# Altium integrated library TI Data Converters Digital to Analog Converter.IntLib: 1533 symbols (part 20 of 99)
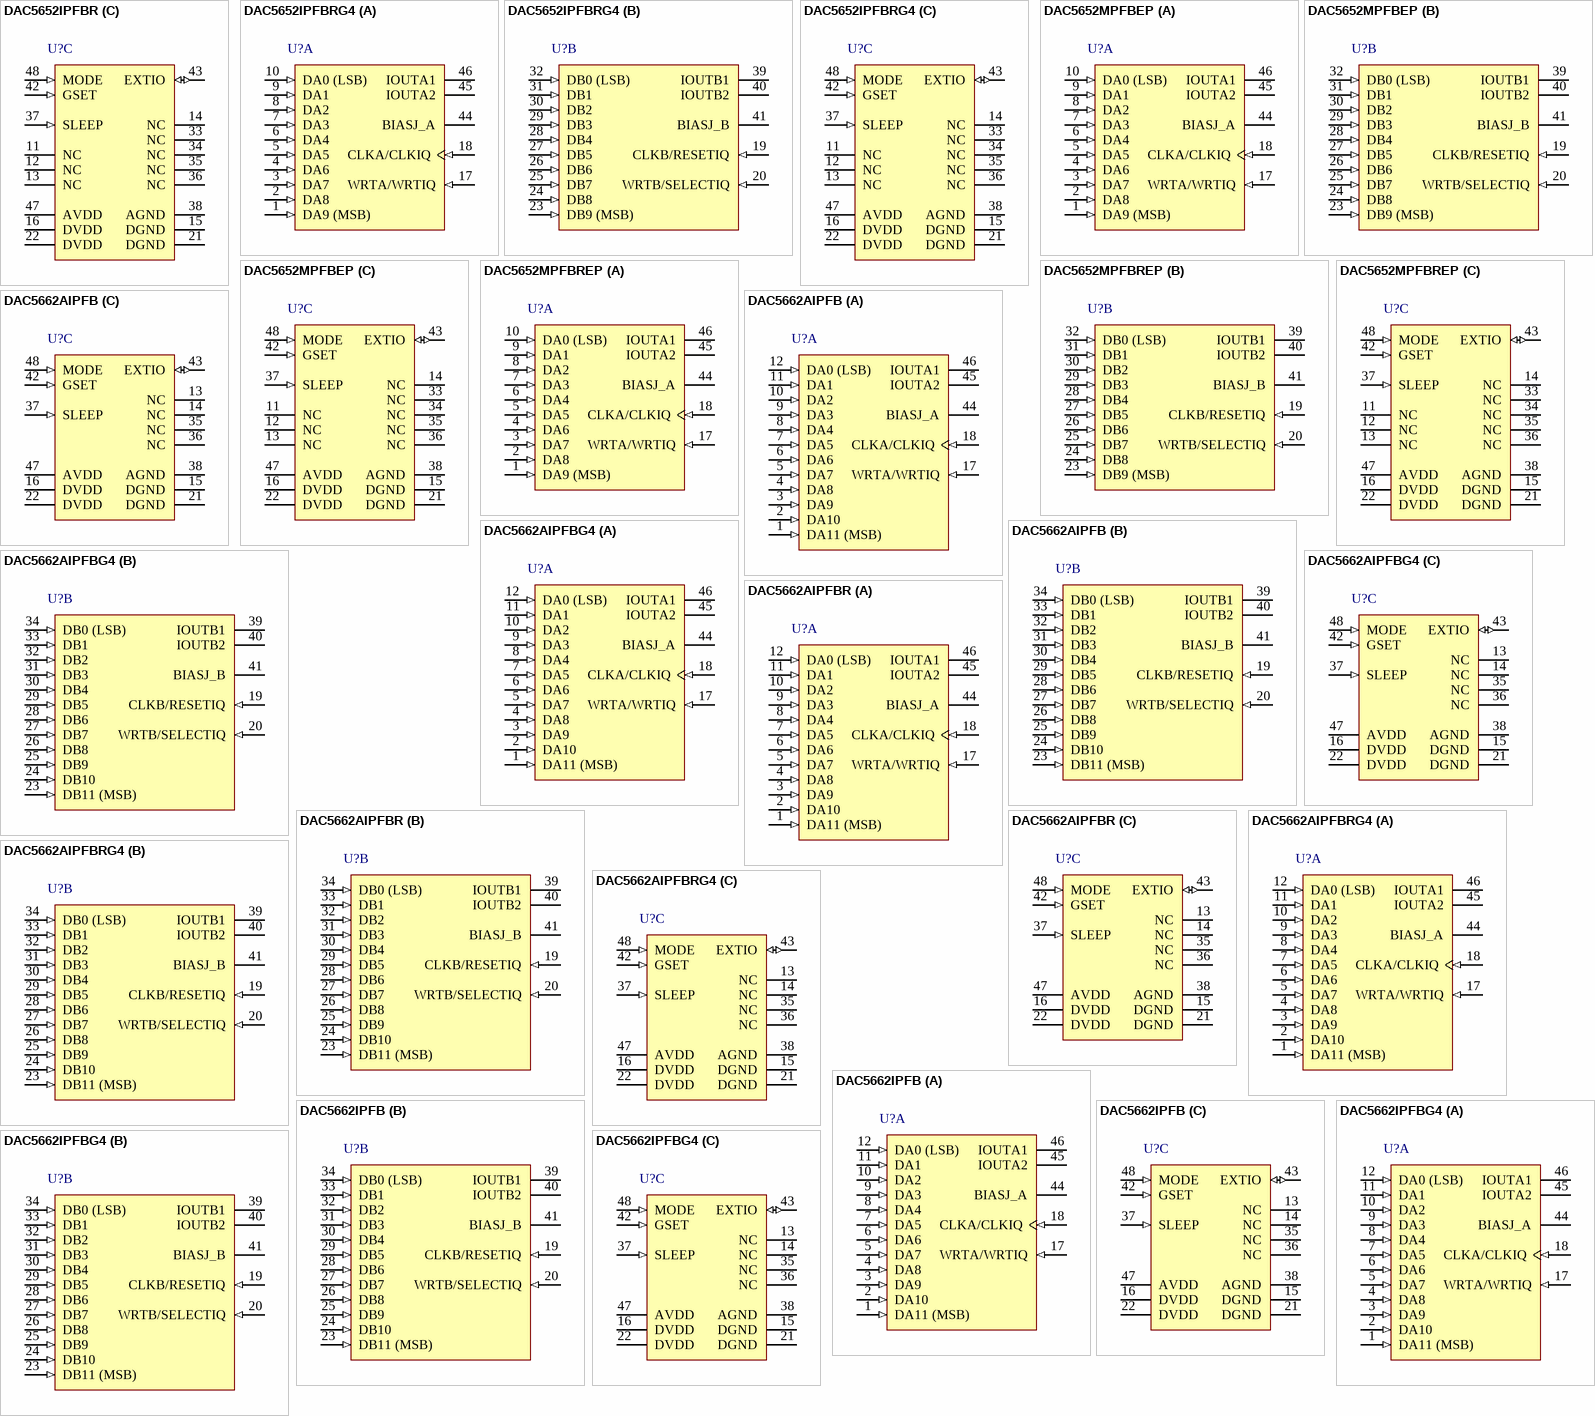
[diagram p92: symbols DAC5652IPFBR to DAC5662IPFBG4]

## DAC5652MPFBEP
designator U?
Enhanced Product 10-Bit 275 MSPS Dual Digital to Analog Converter, -55 to 125 degC, 48-pin QFP (PFB48), Green (RoHS & no Sb/Br); Manufacturer: Texas Instruments; PartNumber: DAC5652MPFBEP; DAC Channels: 2; DNL(Max)(+/-LSB): 0.5; INL(Max)(+/-LSB): 1; Interface: Parallel CMOS; Power Consumption(Typ)(mW): 290; Resolution(Bits): 10; Settling Time(us): 0.02; SFDR(dB): 80; SNR(dB): 63; SubFamily: High Speed DAC (>10MSPS); DatasheetVersion: SGLS341C; PackageVersion: 4073176/B, 10/1996; PackageReference: PFB48; PackageDescription: 48-Pin Plastic Flat Pack, Body 7 x 7 mm, Pitch 0.5 mm; Supplier 1: Mouser; Supplier Part Number 1: 595-DAC5652MPFBEP; Eco-Plan: Green (RoHS & no Sb/Br); Mounting Technology: Surface Mount; Code_JEDEC: MS-026; ComponentLink1Description: Manufacturer URL; ComponentLink1URL: http://www.ti.com/; ComponentLink2Description: Datasheet; ComponentLink2URL: http://www.ti.com/general/docs/lit/getliterature.tsp?genericPartNumber=DAC5652-EP&fileType=pdf; ComponentLink3Description: Package Specification; ComponentLink3URL: http://www.ti.com/lit/ml/mtqf019a/mtqf019a.pdf
footprint TI-PFB48_N (QFP, 48-Leads, Body 7x7mm, Pitch 0.5mm, IPC Medium Density)
footprint TI-PFB48_L (QFP, 48-Leads, Body 7x7mm, Pitch 0.5mm, IPC High Density)
footprint TI-PFB48_M (QFP, 48-Leads, Body 7x7mm, Pitch 0.5mm, IPC Low Density)
part A pins: 1 DA9 (MSB) (in) "Data port A. DA9 is MSB and DA0 is LSB. Internal pulldown.", 2 DA8 (in) "Data port A. DA9 is MSB and DA0 is LSB. Internal pulldown.", 3 DA7 (in) "Data port A. DA9 is MSB and DA0 is LSB. Internal pulldown.", 4 DA6 (in) "Data port A. DA9 is MSB and DA0 is LSB. Internal pulldown.", 5 DA5 (in) "Data port A. DA9 is MSB and DA0 is LSB. Internal pulldown.", 6 DA4 (in) "Data port A. DA9 is MSB and DA0 is LSB. Internal pulldown.", 7 DA3 (in) "Data port A. DA9 is MSB and DA0 is LSB. Internal pulldown.", 8 DA2 (in) "Data port A. DA9 is MSB and DA0 is LSB. Internal pulldown.", 9 DA1 (in) "Data port A. DA9 is MSB and DA0 is LSB. Internal pulldown.", 10 DA0 (LSB) (in) "Data port A. DA9 is MSB and DA0 is LSB. Internal pulldown.", 17 WRTA/WRTIQ (in) "Input write signal for PORT A (WRTIQ in interleaving mode)", 18 CLKA/CLKIQ (in) "Clock input for DACA, CLKIQ in interleaved mode", 44 BIASJ_A "Full-scale output current bias for DACA", 45 IOUTA2 (hiz) "DACA complementary current output. Full-scale with all bits of DA low.", 46 IOUTA1 (hiz) "DACA current output. Full-scale with all bits of DA high."
part B pins: 19 CLKB/RESETIQ (in) "Clock input for DACB, RESETIQ in interleaved mode", 20 WRTB/SELECTIQ (in) "Input write signal for PORT B (SELECTIQ in interleaving mode)", 23 DB9 (MSB) (in) "Data port B. DB9 is MSB and DB0 is LSB. Internal pulldown.", 24 DB8 (in) "Data port B. DB9 is MSB and DB0 is LSB. Internal pulldown.", 25 DB7 (in) "Data port B. DB9 is MSB and DB0 is LSB. Internal pulldown.", 26 DB6 (in) "Data port B. DB9 is MSB and DB0 is LSB. Internal pulldown.", 27 DB5 (in) "Data port B. DB9 is MSB and DB0 is LSB. Internal pulldown.", 28 DB4 (in) "Data port B. DB9 is MSB and DB0 is LSB. Internal pulldown.", 29 DB3 (in) "Data port B. DB9 is MSB and DB0 is LSB. Internal pulldown.", 30 DB2 (in) "Data port B. DB9 is MSB and DB0 is LSB. Internal pulldown.", 31 DB1 (in) "Data port B. DB9 is MSB and DB0 is LSB. Internal pulldown.", 32 DB0 (LSB) (in) "Data port B. DB9 is MSB and DB0 is LSB. Internal pulldown.", 39 IOUTB1 (hiz) "DACB current output. Full-scale with all bits of DB high.", 40 IOUTB2 (hiz) "DACB complementary current output. Full-scale with all bits of DB low.", 41 BIASJ_B "Full-scale output current bias for DACB"
part C pins: 11 NC "Factory use only. Pins must be connected to DGND or left unconnected.", 12 NC "Factory use only. Pins must be connected to DGND or left unconnected.", 13 NC "Factory use only. Pins must be connected to DGND or left unconnected.", 14 NC "Factory use only. Pins must be connected to DGND or left unconnected.", 15 DGND (power) "Digital ground", 16 DVDD (power) "Digital supply voltage", 21 DGND (power) "Digital ground", 22 DVDD (power) "Digital supply voltage", 33 NC "Factory use only. Pins must be connected to DGND or left unconnected.", 34 NC "Factory use only. Pins must be connected to DGND or left unconnected.", 35 NC "Factory use only. Pins must be connected to DGND or left unconnected.", 36 NC "Factory use only. Pins must be connected to DGND or left unconnected.", 37 SLEEP (in) "Sleep function control input: H - DAC in power-down mode, L - DAC in operating mode. Internal pulldown.", 38 AGND (power) "Analog ground", 42 GSET (in) "Gain-setting mode: H - 1 resistor, L - 2 resistors. Internal pullup.", 43 EXTIO (io) "Internal reference output (bypass with 0.1 uF to AGND) or external reference input", 47 AVDD (power) "Analog supply voltage", 48 MODE (in) "Mode Select: H - Dual Bus, L - Interleaved. Internal pullup."

## DAC5652MPFBREP
designator U?
Enhanced Product 10-Bit 275 MSPS Dual Digital to Analog Converter, -55 to 125 degC, 48-pin QFP (PFB48), Green (RoHS & no Sb/Br); Manufacturer: Texas Instruments; PartNumber: DAC5652MPFBREP; DAC Channels: 2; DNL(Max)(+/-LSB): 0.5; INL(Max)(+/-LSB): 1; Interface: Parallel CMOS; Power Consumption(Typ)(mW): 290; Resolution(Bits): 10; Settling Time(us): 0.02; SFDR(dB): 80; SNR(dB): 63; SubFamily: High Speed DAC (>10MSPS); DatasheetVersion: SGLS341C; PackageVersion: 4073176/B, 10/1996; PackageReference: PFB48; PackageDescription: 48-Pin Plastic Flat Pack, Body 7 x 7 mm, Pitch 0.5 mm; Supplier 1: Digi-Key; Supplier Part Number 1: 296-21303-2-ND; Supplier 2: Digi-Key; Supplier Part Number 2: 296-21303-1-ND; Supplier 3: Digi-Key; Supplier Part Number 3: 296-21303-6-ND; Supplier 4: Newark; Supplier Part Number 4: 63R9875; Supplier 5: Mouser; Supplier Part Number 5: 595-DAC5652MPFBREP; Eco-Plan: Green (RoHS & no Sb/Br); Mounting Technology: Surface Mount; Code_JEDEC: MS-026; ComponentLink1Description: Manufacturer URL; ComponentLink1URL: http://www.ti.com/; ComponentLink2Description: Datasheet; ComponentLink2URL: http://www.ti.com/general/docs/lit/getliterature.tsp?genericPartNumber=DAC5652-EP&fileType=pdf; ComponentLink3Description: Package Specification; ComponentLink3URL: http://www.ti.com/lit/ml/mtqf019a/mtqf019a.pdf
footprint TI-PFB48_N (QFP, 48-Leads, Body 7x7mm, Pitch 0.5mm, IPC Medium Density)
footprint TI-PFB48_L (QFP, 48-Leads, Body 7x7mm, Pitch 0.5mm, IPC High Density)
footprint TI-PFB48_M (QFP, 48-Leads, Body 7x7mm, Pitch 0.5mm, IPC Low Density)
part A pins: 1 DA9 (MSB) (in) "Data port A. DA9 is MSB and DA0 is LSB. Internal pulldown.", 2 DA8 (in) "Data port A. DA9 is MSB and DA0 is LSB. Internal pulldown.", 3 DA7 (in) "Data port A. DA9 is MSB and DA0 is LSB. Internal pulldown.", 4 DA6 (in) "Data port A. DA9 is MSB and DA0 is LSB. Internal pulldown.", 5 DA5 (in) "Data port A. DA9 is MSB and DA0 is LSB. Internal pulldown.", 6 DA4 (in) "Data port A. DA9 is MSB and DA0 is LSB. Internal pulldown.", 7 DA3 (in) "Data port A. DA9 is MSB and DA0 is LSB. Internal pulldown.", 8 DA2 (in) "Data port A. DA9 is MSB and DA0 is LSB. Internal pulldown.", 9 DA1 (in) "Data port A. DA9 is MSB and DA0 is LSB. Internal pulldown.", 10 DA0 (LSB) (in) "Data port A. DA9 is MSB and DA0 is LSB. Internal pulldown.", 17 WRTA/WRTIQ (in) "Input write signal for PORT A (WRTIQ in interleaving mode)", 18 CLKA/CLKIQ (in) "Clock input for DACA, CLKIQ in interleaved mode", 44 BIASJ_A "Full-scale output current bias for DACA", 45 IOUTA2 (hiz) "DACA complementary current output. Full-scale with all bits of DA low.", 46 IOUTA1 (hiz) "DACA current output. Full-scale with all bits of DA high."
part B pins: 19 CLKB/RESETIQ (in) "Clock input for DACB, RESETIQ in interleaved mode", 20 WRTB/SELECTIQ (in) "Input write signal for PORT B (SELECTIQ in interleaving mode)", 23 DB9 (MSB) (in) "Data port B. DB9 is MSB and DB0 is LSB. Internal pulldown.", 24 DB8 (in) "Data port B. DB9 is MSB and DB0 is LSB. Internal pulldown.", 25 DB7 (in) "Data port B. DB9 is MSB and DB0 is LSB. Internal pulldown.", 26 DB6 (in) "Data port B. DB9 is MSB and DB0 is LSB. Internal pulldown.", 27 DB5 (in) "Data port B. DB9 is MSB and DB0 is LSB. Internal pulldown.", 28 DB4 (in) "Data port B. DB9 is MSB and DB0 is LSB. Internal pulldown.", 29 DB3 (in) "Data port B. DB9 is MSB and DB0 is LSB. Internal pulldown.", 30 DB2 (in) "Data port B. DB9 is MSB and DB0 is LSB. Internal pulldown.", 31 DB1 (in) "Data port B. DB9 is MSB and DB0 is LSB. Internal pulldown.", 32 DB0 (LSB) (in) "Data port B. DB9 is MSB and DB0 is LSB. Internal pulldown.", 39 IOUTB1 (hiz) "DACB current output. Full-scale with all bits of DB high.", 40 IOUTB2 (hiz) "DACB complementary current output. Full-scale with all bits of DB low.", 41 BIASJ_B "Full-scale output current bias for DACB"
part C pins: 11 NC "Factory use only. Pins must be connected to DGND or left unconnected.", 12 NC "Factory use only. Pins must be connected to DGND or left unconnected.", 13 NC "Factory use only. Pins must be connected to DGND or left unconnected.", 14 NC "Factory use only. Pins must be connected to DGND or left unconnected.", 15 DGND (power) "Digital ground", 16 DVDD (power) "Digital supply voltage", 21 DGND (power) "Digital ground", 22 DVDD (power) "Digital supply voltage", 33 NC "Factory use only. Pins must be connected to DGND or left unconnected.", 34 NC "Factory use only. Pins must be connected to DGND or left unconnected.", 35 NC "Factory use only. Pins must be connected to DGND or left unconnected.", 36 NC "Factory use only. Pins must be connected to DGND or left unconnected.", 37 SLEEP (in) "Sleep function control input: H - DAC in power-down mode, L - DAC in operating mode. Internal pulldown.", 38 AGND (power) "Analog ground", 42 GSET (in) "Gain-setting mode: H - 1 resistor, L - 2 resistors. Internal pullup.", 43 EXTIO (io) "Internal reference output (bypass with 0.1 uF to AGND) or external reference input", 47 AVDD (power) "Analog supply voltage", 48 MODE (in) "Mode Select: H - Dual Bus, L - Interleaved. Internal pullup."

## DAC5662AIPFB
designator U?
12-Bit 275 MSPS Dual DAC, -40 to 85 degC, 48-pin QFP (PFB48), Green (RoHS & no Sb/Br); Manufacturer: Texas Instruments; PartNumber: DAC5662AIPFB; DAC Channels: 2; Interface: Parallel CMOS; Power Consumption(Typ)(mW): 330; Resolution(Bits): 12; Settling Time(us): 0.02; SFDR(dB): 85; SNR(dB): 73; SubFamily: High Speed DAC (>10MSPS); DatasheetVersion: SLAS536B; PackageVersion: 4073176/B, 10/1996; PackageReference: PFB48; PackageDescription: 48-Pin Plastic Flat Pack, Body 7 x 7 mm, Pitch 0.5 mm; Supplier 1: Digi-Key; Supplier Part Number 1: 296-22615-ND; Supplier 2: Newark; Supplier Part Number 2: 58M0321; Supplier 3: Mouser; Supplier Part Number 3: 595-DAC5662AIPFB; DNL(Max)(+/-LSB): 2; Eco-Plan: Green (RoHS & no Sb/Br); INL(Max)(+/-LSB): 2; Mounting Technology: Surface Mount; Code_JEDEC: MS-026; ComponentLink1Description: Manufacturer URL; ComponentLink1URL: http://www.ti.com/; ComponentLink2Description: Datasheet; ComponentLink2URL: http://www.ti.com/general/docs/lit/getliterature.tsp?genericPartNumber=DAC5662A&fileType=pdf; ComponentLink3Description: Package Specification; ComponentLink3URL: http://www.ti.com/lit/ml/mtqf019a/mtqf019a.pdf
footprint TI-PFB48_N (QFP, 48-Leads, Body 7x7mm, Pitch 0.5mm, IPC Medium Density)
footprint TI-PFB48_L (QFP, 48-Leads, Body 7x7mm, Pitch 0.5mm, IPC High Density)
footprint TI-PFB48_M (QFP, 48-Leads, Body 7x7mm, Pitch 0.5mm, IPC Low Density)
part A pins: 1 DA11 (MSB) (in) "Data port A. DA11 is MSB and DA0 is LSB. Internal pulldown.", 2 DA10 (in) "Data port A. DA11 is MSB and DA0 is LSB. Internal pulldown.", 3 DA9 (in) "Data port A. DA11 is MSB and DA0 is LSB. Internal pulldown.", 4 DA8 (in) "Data port A. DA11 is MSB and DA0 is LSB. Internal pulldown.", 5 DA7 (in) "Data port A. DA11 is MSB and DA0 is LSB. Internal pulldown.", 6 DA6 (in) "Data port A. DA11 is MSB and DA0 is LSB. Internal pulldown.", 7 DA5 (in) "Data port A. DA11 is MSB and DA0 is LSB. Internal pulldown.", 8 DA4 (in) "Data port A. DA11 is MSB and DA0 is LSB. Internal pulldown.", 9 DA3 (in) "Data port A. DA11 is MSB and DA0 is LSB. Internal pulldown.", 10 DA2 (in) "Data port A. DA11 is MSB and DA0 is LSB. Internal pulldown.", 11 DA1 (in) "Data port A. DA11 is MSB and DA0 is LSB. Internal pulldown.", 12 DA0 (LSB) (in) "Data port A. DA11 is MSB and DA0 is LSB. Internal pulldown.", 17 WRTA/WRTIQ (in) "Input write signal for PORT A (WRTIQ in interleaving mode)", 18 CLKA/CLKIQ (in) "Clock input for DACA, CLKIQ in interleaved mode", 44 BIASJ_A "Full-scale output current bias for DACA", 45 IOUTA2 (hiz) "DACA complementary current output. Full-scale with all bits of DA low.", 46 IOUTA1 (hiz) "DACA current output. Full-scale with all bits of DA high."
part B pins: 19 CLKB/RESETIQ (in) "Clock input for DACB, RESETIQ in interleaved mode", 20 WRTB/SELECTIQ (in) "Input write signal for PORT B (SELECTIQ in interleaving mode)", 23 DB11 (MSB) (in) "Data port B. DB11 is MSB and DB0 is LSB. Internal pulldown.", 24 DB10 (in) "Data port B. DB11 is MSB and DB0 is LSB. Internal pulldown.", 25 DB9 (in) "Data port B. DB11 is MSB and DB0 is LSB. Internal pulldown.", 26 DB8 (in) "Data port B. DB11 is MSB and DB0 is LSB. Internal pulldown.", 27 DB7 (in) "Data port B. DB11 is MSB and DB0 is LSB. Internal pulldown.", 28 DB6 (in) "Data port B. DB11 is MSB and DB0 is LSB. Internal pulldown.", 29 DB5 (in) "Data port B. DB11 is MSB and DB0 is LSB. Internal pulldown.", 30 DB4 (in) "Data port B. DB11 is MSB and DB0 is LSB. Internal pulldown.", 31 DB3 (in) "Data port B. DB11 is MSB and DB0 is LSB. Internal pulldown.", 32 DB2 (in) "Data port B. DB11 is MSB and DB0 is LSB. Internal pulldown.", 33 DB1 (in) "Data port B. DB11 is MSB and DB0 is LSB. Internal pulldown.", 34 DB0 (LSB) (in) "Data port B. DB11 is MSB and DB0 is LSB. Internal pulldown.", 39 IOUTB1 (hiz) "DACB current output. Full-scale with all bits of DB high.", 40 IOUTB2 (hiz) "DACB complementary current output. Full-scale with all bits of DB low.", 41 BIASJ_B "Full-scale output current bias for DACB"
part C pins: 13 NC "Factory use only. Pins must be connected to DGND or left unconnected.", 14 NC "Factory use only. Pins must be connected to DGND or left unconnected.", 15 DGND (power) "Digital ground", 16 DVDD (power) "Digital supply voltage", 21 DGND (power) "Digital ground", 22 DVDD (power) "Digital supply voltage", 35 NC "Factory use only. Pins must be connected to DGND or left unconnected.", 36 NC "Factory use only. Pins must be connected to DGND or left unconnected.", 37 SLEEP (in) "Sleep function control input: H - DAC in power-down mode, L - DAC in operating mode. Internal pulldown.", 38 AGND (power) "Analog ground", 42 GSET (in) "Gain-setting mode: H - 1 resistor, L - 2 resistors. Internal pullup.", 43 EXTIO (io) "Internal reference output (bypass with 0.1 uF to AGND) or external reference input", 47 AVDD (power) "Analog supply voltage", 48 MODE (in) "Mode Select: H - Dual Bus, L - Interleaved. Internal pullup."

## DAC5662AIPFBG4
designator U?
12-Bit 275 MSPS Dual DAC, -40 to 85 degC, 48-pin QFP (PFB48), Green (RoHS & no Sb/Br); Manufacturer: Texas Instruments; PartNumber: DAC5662AIPFBG4; DAC Channels: 2; Interface: Parallel CMOS; Power Consumption(Typ)(mW): 330; Resolution(Bits): 12; Settling Time(us): 0.02; SFDR(dB): 85; SNR(dB): 73; SubFamily: High Speed DAC (>10MSPS); DatasheetVersion: SLAS536B; PackageVersion: 4073176/B, 10/1996; PackageReference: PFB48; PackageDescription: 48-Pin Plastic Flat Pack, Body 7 x 7 mm, Pitch 0.5 mm; Supplier 1: Digi-Key; Supplier Part Number 1: DAC5662AIPFBG4-ND; Supplier 2: Mouser; Supplier Part Number 2: 595-DAC5662AIPFBG4; DNL(Max)(+/-LSB): 2; Eco-Plan: Green (RoHS & no Sb/Br); INL(Max)(+/-LSB): 2; Mounting Technology: Surface Mount; Code_JEDEC: MS-026; ComponentLink1Description: Manufacturer URL; ComponentLink1URL: http://www.ti.com/; ComponentLink2Description: Datasheet; ComponentLink2URL: http://www.ti.com/general/docs/lit/getliterature.tsp?genericPartNumber=DAC5662A&fileType=pdf; ComponentLink3Description: Package Specification; ComponentLink3URL: http://www.ti.com/lit/ml/mtqf019a/mtqf019a.pdf
footprint TI-PFB48_N (QFP, 48-Leads, Body 7x7mm, Pitch 0.5mm, IPC Medium Density)
footprint TI-PFB48_L (QFP, 48-Leads, Body 7x7mm, Pitch 0.5mm, IPC High Density)
footprint TI-PFB48_M (QFP, 48-Leads, Body 7x7mm, Pitch 0.5mm, IPC Low Density)
part A pins: 1 DA11 (MSB) (in) "Data port A. DA11 is MSB and DA0 is LSB. Internal pulldown.", 2 DA10 (in) "Data port A. DA11 is MSB and DA0 is LSB. Internal pulldown.", 3 DA9 (in) "Data port A. DA11 is MSB and DA0 is LSB. Internal pulldown.", 4 DA8 (in) "Data port A. DA11 is MSB and DA0 is LSB. Internal pulldown.", 5 DA7 (in) "Data port A. DA11 is MSB and DA0 is LSB. Internal pulldown.", 6 DA6 (in) "Data port A. DA11 is MSB and DA0 is LSB. Internal pulldown.", 7 DA5 (in) "Data port A. DA11 is MSB and DA0 is LSB. Internal pulldown.", 8 DA4 (in) "Data port A. DA11 is MSB and DA0 is LSB. Internal pulldown.", 9 DA3 (in) "Data port A. DA11 is MSB and DA0 is LSB. Internal pulldown.", 10 DA2 (in) "Data port A. DA11 is MSB and DA0 is LSB. Internal pulldown.", 11 DA1 (in) "Data port A. DA11 is MSB and DA0 is LSB. Internal pulldown.", 12 DA0 (LSB) (in) "Data port A. DA11 is MSB and DA0 is LSB. Internal pulldown.", 17 WRTA/WRTIQ (in) "Input write signal for PORT A (WRTIQ in interleaving mode)", 18 CLKA/CLKIQ (in) "Clock input for DACA, CLKIQ in interleaved mode", 44 BIASJ_A "Full-scale output current bias for DACA", 45 IOUTA2 (hiz) "DACA complementary current output. Full-scale with all bits of DA low.", 46 IOUTA1 (hiz) "DACA current output. Full-scale with all bits of DA high."
part B pins: 19 CLKB/RESETIQ (in) "Clock input for DACB, RESETIQ in interleaved mode", 20 WRTB/SELECTIQ (in) "Input write signal for PORT B (SELECTIQ in interleaving mode)", 23 DB11 (MSB) (in) "Data port B. DB11 is MSB and DB0 is LSB. Internal pulldown.", 24 DB10 (in) "Data port B. DB11 is MSB and DB0 is LSB. Internal pulldown.", 25 DB9 (in) "Data port B. DB11 is MSB and DB0 is LSB. Internal pulldown.", 26 DB8 (in) "Data port B. DB11 is MSB and DB0 is LSB. Internal pulldown.", 27 DB7 (in) "Data port B. DB11 is MSB and DB0 is LSB. Internal pulldown.", 28 DB6 (in) "Data port B. DB11 is MSB and DB0 is LSB. Internal pulldown.", 29 DB5 (in) "Data port B. DB11 is MSB and DB0 is LSB. Internal pulldown.", 30 DB4 (in) "Data port B. DB11 is MSB and DB0 is LSB. Internal pulldown.", 31 DB3 (in) "Data port B. DB11 is MSB and DB0 is LSB. Internal pulldown.", 32 DB2 (in) "Data port B. DB11 is MSB and DB0 is LSB. Internal pulldown.", 33 DB1 (in) "Data port B. DB11 is MSB and DB0 is LSB. Internal pulldown.", 34 DB0 (LSB) (in) "Data port B. DB11 is MSB and DB0 is LSB. Internal pulldown.", 39 IOUTB1 (hiz) "DACB current output. Full-scale with all bits of DB high.", 40 IOUTB2 (hiz) "DACB complementary current output. Full-scale with all bits of DB low.", 41 BIASJ_B "Full-scale output current bias for DACB"
part C pins: 13 NC "Factory use only. Pins must be connected to DGND or left unconnected.", 14 NC "Factory use only. Pins must be connected to DGND or left unconnected.", 15 DGND (power) "Digital ground", 16 DVDD (power) "Digital supply voltage", 21 DGND (power) "Digital ground", 22 DVDD (power) "Digital supply voltage", 35 NC "Factory use only. Pins must be connected to DGND or left unconnected.", 36 NC "Factory use only. Pins must be connected to DGND or left unconnected.", 37 SLEEP (in) "Sleep function control input: H - DAC in power-down mode, L - DAC in operating mode. Internal pulldown.", 38 AGND (power) "Analog ground", 42 GSET (in) "Gain-setting mode: H - 1 resistor, L - 2 resistors. Internal pullup.", 43 EXTIO (io) "Internal reference output (bypass with 0.1 uF to AGND) or external reference input", 47 AVDD (power) "Analog supply voltage", 48 MODE (in) "Mode Select: H - Dual Bus, L - Interleaved. Internal pullup."

## DAC5662AIPFBR
designator U?
12-Bit 275 MSPS Dual DAC, -40 to 85 degC, 48-pin QFP (PFB48), Green (RoHS & no Sb/Br); Manufacturer: Texas Instruments; PartNumber: DAC5662AIPFBR; DAC Channels: 2; Interface: Parallel CMOS; Power Consumption(Typ)(mW): 330; Resolution(Bits): 12; Settling Time(us): 0.02; SFDR(dB): 85; SNR(dB): 73; SubFamily: High Speed DAC (>10MSPS); DatasheetVersion: SLAS536B; PackageVersion: 4073176/B, 10/1996; PackageReference: PFB48; PackageDescription: 48-Pin Plastic Flat Pack, Body 7 x 7 mm, Pitch 0.5 mm; Supplier 1: Digi-Key; Supplier Part Number 1: DAC5662AIPFBR-ND; Supplier 2: Newark; Supplier Part Number 2: 58M0322; Supplier 3: Mouser; Supplier Part Number 3: 595-DAC5662AIPFBR; DNL(Max)(+/-LSB): 2; Eco-Plan: Green (RoHS & no Sb/Br); INL(Max)(+/-LSB): 2; Mounting Technology: Surface Mount; Code_JEDEC: MS-026; ComponentLink1Description: Manufacturer URL; ComponentLink1URL: http://www.ti.com/; ComponentLink2Description: Datasheet; ComponentLink2URL: http://www.ti.com/general/docs/lit/getliterature.tsp?genericPartNumber=DAC5662A&fileType=pdf; ComponentLink3Description: Package Specification; ComponentLink3URL: http://www.ti.com/lit/ml/mtqf019a/mtqf019a.pdf
footprint TI-PFB48_N (QFP, 48-Leads, Body 7x7mm, Pitch 0.5mm, IPC Medium Density)
footprint TI-PFB48_L (QFP, 48-Leads, Body 7x7mm, Pitch 0.5mm, IPC High Density)
footprint TI-PFB48_M (QFP, 48-Leads, Body 7x7mm, Pitch 0.5mm, IPC Low Density)
part A pins: 1 DA11 (MSB) (in) "Data port A. DA11 is MSB and DA0 is LSB. Internal pulldown.", 2 DA10 (in) "Data port A. DA11 is MSB and DA0 is LSB. Internal pulldown.", 3 DA9 (in) "Data port A. DA11 is MSB and DA0 is LSB. Internal pulldown.", 4 DA8 (in) "Data port A. DA11 is MSB and DA0 is LSB. Internal pulldown.", 5 DA7 (in) "Data port A. DA11 is MSB and DA0 is LSB. Internal pulldown.", 6 DA6 (in) "Data port A. DA11 is MSB and DA0 is LSB. Internal pulldown.", 7 DA5 (in) "Data port A. DA11 is MSB and DA0 is LSB. Internal pulldown.", 8 DA4 (in) "Data port A. DA11 is MSB and DA0 is LSB. Internal pulldown.", 9 DA3 (in) "Data port A. DA11 is MSB and DA0 is LSB. Internal pulldown.", 10 DA2 (in) "Data port A. DA11 is MSB and DA0 is LSB. Internal pulldown.", 11 DA1 (in) "Data port A. DA11 is MSB and DA0 is LSB. Internal pulldown.", 12 DA0 (LSB) (in) "Data port A. DA11 is MSB and DA0 is LSB. Internal pulldown.", 17 WRTA/WRTIQ (in) "Input write signal for PORT A (WRTIQ in interleaving mode)", 18 CLKA/CLKIQ (in) "Clock input for DACA, CLKIQ in interleaved mode", 44 BIASJ_A "Full-scale output current bias for DACA", 45 IOUTA2 (hiz) "DACA complementary current output. Full-scale with all bits of DA low.", 46 IOUTA1 (hiz) "DACA current output. Full-scale with all bits of DA high."
part B pins: 19 CLKB/RESETIQ (in) "Clock input for DACB, RESETIQ in interleaved mode", 20 WRTB/SELECTIQ (in) "Input write signal for PORT B (SELECTIQ in interleaving mode)", 23 DB11 (MSB) (in) "Data port B. DB11 is MSB and DB0 is LSB. Internal pulldown.", 24 DB10 (in) "Data port B. DB11 is MSB and DB0 is LSB. Internal pulldown.", 25 DB9 (in) "Data port B. DB11 is MSB and DB0 is LSB. Internal pulldown.", 26 DB8 (in) "Data port B. DB11 is MSB and DB0 is LSB. Internal pulldown.", 27 DB7 (in) "Data port B. DB11 is MSB and DB0 is LSB. Internal pulldown.", 28 DB6 (in) "Data port B. DB11 is MSB and DB0 is LSB. Internal pulldown.", 29 DB5 (in) "Data port B. DB11 is MSB and DB0 is LSB. Internal pulldown.", 30 DB4 (in) "Data port B. DB11 is MSB and DB0 is LSB. Internal pulldown.", 31 DB3 (in) "Data port B. DB11 is MSB and DB0 is LSB. Internal pulldown.", 32 DB2 (in) "Data port B. DB11 is MSB and DB0 is LSB. Internal pulldown.", 33 DB1 (in) "Data port B. DB11 is MSB and DB0 is LSB. Internal pulldown.", 34 DB0 (LSB) (in) "Data port B. DB11 is MSB and DB0 is LSB. Internal pulldown.", 39 IOUTB1 (hiz) "DACB current output. Full-scale with all bits of DB high.", 40 IOUTB2 (hiz) "DACB complementary current output. Full-scale with all bits of DB low.", 41 BIASJ_B "Full-scale output current bias for DACB"
part C pins: 13 NC "Factory use only. Pins must be connected to DGND or left unconnected.", 14 NC "Factory use only. Pins must be connected to DGND or left unconnected.", 15 DGND (power) "Digital ground", 16 DVDD (power) "Digital supply voltage", 21 DGND (power) "Digital ground", 22 DVDD (power) "Digital supply voltage", 35 NC "Factory use only. Pins must be connected to DGND or left unconnected.", 36 NC "Factory use only. Pins must be connected to DGND or left unconnected.", 37 SLEEP (in) "Sleep function control input: H - DAC in power-down mode, L - DAC in operating mode. Internal pulldown.", 38 AGND (power) "Analog ground", 42 GSET (in) "Gain-setting mode: H - 1 resistor, L - 2 resistors. Internal pullup.", 43 EXTIO (io) "Internal reference output (bypass with 0.1 uF to AGND) or external reference input", 47 AVDD (power) "Analog supply voltage", 48 MODE (in) "Mode Select: H - Dual Bus, L - Interleaved. Internal pullup."

## DAC5662AIPFBRG4
designator U?
12-Bit 275 MSPS Dual DAC, -40 to 85 degC, 48-pin QFP (PFB48), Green (RoHS & no Sb/Br); Manufacturer: Texas Instruments; PartNumber: DAC5662AIPFBRG4; DAC Channels: 2; Interface: Parallel CMOS; Power Consumption(Typ)(mW): 330; Resolution(Bits): 12; Settling Time(us): 0.02; SFDR(dB): 85; SNR(dB): 73; SubFamily: High Speed DAC (>10MSPS); DatasheetVersion: SLAS536B; PackageVersion: 4073176/B, 10/1996; PackageReference: PFB48; PackageDescription: 48-Pin Plastic Flat Pack, Body 7 x 7 mm, Pitch 0.5 mm; Supplier 1: Digi-Key; Supplier Part Number 1: DAC5662AIPFBRG4-ND; Supplier 2: Mouser; Supplier Part Number 2: 595-DAC5662AIPFBRG4; DNL(Max)(+/-LSB): 2; Eco-Plan: Green (RoHS & no Sb/Br); INL(Max)(+/-LSB): 2; Mounting Technology: Surface Mount; Code_JEDEC: MS-026; ComponentLink1Description: Manufacturer URL; ComponentLink1URL: http://www.ti.com/; ComponentLink2Description: Datasheet; ComponentLink2URL: http://www.ti.com/general/docs/lit/getliterature.tsp?genericPartNumber=DAC5662A&fileType=pdf; ComponentLink3Description: Package Specification; ComponentLink3URL: http://www.ti.com/lit/ml/mtqf019a/mtqf019a.pdf
footprint TI-PFB48_N (QFP, 48-Leads, Body 7x7mm, Pitch 0.5mm, IPC Medium Density)
footprint TI-PFB48_L (QFP, 48-Leads, Body 7x7mm, Pitch 0.5mm, IPC High Density)
footprint TI-PFB48_M (QFP, 48-Leads, Body 7x7mm, Pitch 0.5mm, IPC Low Density)
part A pins: 1 DA11 (MSB) (in) "Data port A. DA11 is MSB and DA0 is LSB. Internal pulldown.", 2 DA10 (in) "Data port A. DA11 is MSB and DA0 is LSB. Internal pulldown.", 3 DA9 (in) "Data port A. DA11 is MSB and DA0 is LSB. Internal pulldown.", 4 DA8 (in) "Data port A. DA11 is MSB and DA0 is LSB. Internal pulldown.", 5 DA7 (in) "Data port A. DA11 is MSB and DA0 is LSB. Internal pulldown.", 6 DA6 (in) "Data port A. DA11 is MSB and DA0 is LSB. Internal pulldown.", 7 DA5 (in) "Data port A. DA11 is MSB and DA0 is LSB. Internal pulldown.", 8 DA4 (in) "Data port A. DA11 is MSB and DA0 is LSB. Internal pulldown.", 9 DA3 (in) "Data port A. DA11 is MSB and DA0 is LSB. Internal pulldown.", 10 DA2 (in) "Data port A. DA11 is MSB and DA0 is LSB. Internal pulldown.", 11 DA1 (in) "Data port A. DA11 is MSB and DA0 is LSB. Internal pulldown.", 12 DA0 (LSB) (in) "Data port A. DA11 is MSB and DA0 is LSB. Internal pulldown.", 17 WRTA/WRTIQ (in) "Input write signal for PORT A (WRTIQ in interleaving mode)", 18 CLKA/CLKIQ (in) "Clock input for DACA, CLKIQ in interleaved mode", 44 BIASJ_A "Full-scale output current bias for DACA", 45 IOUTA2 (hiz) "DACA complementary current output. Full-scale with all bits of DA low.", 46 IOUTA1 (hiz) "DACA current output. Full-scale with all bits of DA high."
part B pins: 19 CLKB/RESETIQ (in) "Clock input for DACB, RESETIQ in interleaved mode", 20 WRTB/SELECTIQ (in) "Input write signal for PORT B (SELECTIQ in interleaving mode)", 23 DB11 (MSB) (in) "Data port B. DB11 is MSB and DB0 is LSB. Internal pulldown.", 24 DB10 (in) "Data port B. DB11 is MSB and DB0 is LSB. Internal pulldown.", 25 DB9 (in) "Data port B. DB11 is MSB and DB0 is LSB. Internal pulldown.", 26 DB8 (in) "Data port B. DB11 is MSB and DB0 is LSB. Internal pulldown.", 27 DB7 (in) "Data port B. DB11 is MSB and DB0 is LSB. Internal pulldown.", 28 DB6 (in) "Data port B. DB11 is MSB and DB0 is LSB. Internal pulldown.", 29 DB5 (in) "Data port B. DB11 is MSB and DB0 is LSB. Internal pulldown.", 30 DB4 (in) "Data port B. DB11 is MSB and DB0 is LSB. Internal pulldown.", 31 DB3 (in) "Data port B. DB11 is MSB and DB0 is LSB. Internal pulldown.", 32 DB2 (in) "Data port B. DB11 is MSB and DB0 is LSB. Internal pulldown.", 33 DB1 (in) "Data port B. DB11 is MSB and DB0 is LSB. Internal pulldown.", 34 DB0 (LSB) (in) "Data port B. DB11 is MSB and DB0 is LSB. Internal pulldown.", 39 IOUTB1 (hiz) "DACB current output. Full-scale with all bits of DB high.", 40 IOUTB2 (hiz) "DACB complementary current output. Full-scale with all bits of DB low.", 41 BIASJ_B "Full-scale output current bias for DACB"
part C pins: 13 NC "Factory use only. Pins must be connected to DGND or left unconnected.", 14 NC "Factory use only. Pins must be connected to DGND or left unconnected.", 15 DGND (power) "Digital ground", 16 DVDD (power) "Digital supply voltage", 21 DGND (power) "Digital ground", 22 DVDD (power) "Digital supply voltage", 35 NC "Factory use only. Pins must be connected to DGND or left unconnected.", 36 NC "Factory use only. Pins must be connected to DGND or left unconnected.", 37 SLEEP (in) "Sleep function control input: H - DAC in power-down mode, L - DAC in operating mode. Internal pulldown.", 38 AGND (power) "Analog ground", 42 GSET (in) "Gain-setting mode: H - 1 resistor, L - 2 resistors. Internal pullup.", 43 EXTIO (io) "Internal reference output (bypass with 0.1 uF to AGND) or external reference input", 47 AVDD (power) "Analog supply voltage", 48 MODE (in) "Mode Select: H - Dual Bus, L - Interleaved. Internal pullup."

## DAC5662IPFB
designator U?
12-Bit 275 MSPS Dual DAC, -40 to 85 degC, 48-pin QFP (PFB48), Green (RoHS & no Sb/Br); Manufacturer: Texas Instruments; PartNumber: DAC5662IPFB; DAC Channels: 2; Interface: Parallel CMOS; Power Consumption(Typ)(mW): 330; Resolution(Bits): 12; Settling Time(us): 0.02; SFDR(dB): 85; SNR(dB): 73; SubFamily: High Speed DAC (>10MSPS); DatasheetVersion: SLAS425B; PackageVersion: 4073176/B, 10/1996; PackageReference: PFB48; PackageDescription: 48-Pin Plastic Flat Pack, Body 7 x 7 mm, Pitch 0.5 mm; Supplier 1: Digi-Key; Supplier Part Number 1: 296-17242-ND; Supplier 2: Mouser; Supplier Part Number 2: 595-DAC5662IPFB; DNL(Max)(+/-LSB): 2; Eco-Plan: Green (RoHS & no Sb/Br); INL(Max)(+/-LSB): 2; Mounting Technology: Surface Mount; Code_JEDEC: MS-026; ComponentLink1Description: Manufacturer URL; ComponentLink1URL: http://www.ti.com/; ComponentLink2Description: Datasheet; ComponentLink2URL: http://www.ti.com/general/docs/lit/getliterature.tsp?genericPartNumber=DAC5662&fileType=pdf; ComponentLink3Description: Package Specification; ComponentLink3URL: http://www.ti.com/lit/ml/mtqf019a/mtqf019a.pdf
footprint TI-PFB48_N (QFP, 48-Leads, Body 7x7mm, Pitch 0.5mm, IPC Medium Density)
footprint TI-PFB48_L (QFP, 48-Leads, Body 7x7mm, Pitch 0.5mm, IPC High Density)
footprint TI-PFB48_M (QFP, 48-Leads, Body 7x7mm, Pitch 0.5mm, IPC Low Density)
part A pins: 1 DA11 (MSB) (in) "Data port A. DA11 is MSB and DA0 is LSB. Internal pulldown.", 2 DA10 (in) "Data port A. DA11 is MSB and DA0 is LSB. Internal pulldown.", 3 DA9 (in) "Data port A. DA11 is MSB and DA0 is LSB. Internal pulldown.", 4 DA8 (in) "Data port A. DA11 is MSB and DA0 is LSB. Internal pulldown.", 5 DA7 (in) "Data port A. DA11 is MSB and DA0 is LSB. Internal pulldown.", 6 DA6 (in) "Data port A. DA11 is MSB and DA0 is LSB. Internal pulldown.", 7 DA5 (in) "Data port A. DA11 is MSB and DA0 is LSB. Internal pulldown.", 8 DA4 (in) "Data port A. DA11 is MSB and DA0 is LSB. Internal pulldown.", 9 DA3 (in) "Data port A. DA11 is MSB and DA0 is LSB. Internal pulldown.", 10 DA2 (in) "Data port A. DA11 is MSB and DA0 is LSB. Internal pulldown.", 11 DA1 (in) "Data port A. DA11 is MSB and DA0 is LSB. Internal pulldown.", 12 DA0 (LSB) (in) "Data port A. DA11 is MSB and DA0 is LSB. Internal pulldown.", 17 WRTA/WRTIQ (in) "Input write signal for PORT A (WRTIQ in interleaving mode)", 18 CLKA/CLKIQ (in) "Clock input for DACA, CLKIQ in interleaved mode", 44 BIASJ_A "Full-scale output current bias for DACA", 45 IOUTA2 (hiz) "DACA complementary current output. Full-scale with all bits of DA low.", 46 IOUTA1 (hiz) "DACA current output. Full-scale with all bits of DA high."
part B pins: 19 CLKB/RESETIQ (in) "Clock input for DACB, RESETIQ in interleaved mode", 20 WRTB/SELECTIQ (in) "Input write signal for PORT B (SELECTIQ in interleaving mode)", 23 DB11 (MSB) (in) "Data port B. DB11 is MSB and DB0 is LSB. Internal pulldown.", 24 DB10 (in) "Data port B. DB11 is MSB and DB0 is LSB. Internal pulldown.", 25 DB9 (in) "Data port B. DB11 is MSB and DB0 is LSB. Internal pulldown.", 26 DB8 (in) "Data port B. DB11 is MSB and DB0 is LSB. Internal pulldown.", 27 DB7 (in) "Data port B. DB11 is MSB and DB0 is LSB. Internal pulldown.", 28 DB6 (in) "Data port B. DB11 is MSB and DB0 is LSB. Internal pulldown.", 29 DB5 (in) "Data port B. DB11 is MSB and DB0 is LSB. Internal pulldown.", 30 DB4 (in) "Data port B. DB11 is MSB and DB0 is LSB. Internal pulldown.", 31 DB3 (in) "Data port B. DB11 is MSB and DB0 is LSB. Internal pulldown.", 32 DB2 (in) "Data port B. DB11 is MSB and DB0 is LSB. Internal pulldown.", 33 DB1 (in) "Data port B. DB11 is MSB and DB0 is LSB. Internal pulldown.", 34 DB0 (LSB) (in) "Data port B. DB11 is MSB and DB0 is LSB. Internal pulldown.", 39 IOUTB1 (hiz) "DACB current output. Full-scale with all bits of DB high.", 40 IOUTB2 (hiz) "DACB complementary current output. Full-scale with all bits of DB low.", 41 BIASJ_B "Full-scale output current bias for DACB"
part C pins: 13 NC "Factory use only. Pins must be connected to DGND or left unconnected.", 14 NC "Factory use only. Pins must be connected to DGND or left unconnected.", 15 DGND (power) "Digital ground", 16 DVDD (power) "Digital supply voltage", 21 DGND (power) "Digital ground", 22 DVDD (power) "Digital supply voltage", 35 NC "Factory use only. Pins must be connected to DGND or left unconnected.", 36 NC "Factory use only. Pins must be connected to DGND or left unconnected.", 37 SLEEP (in) "Sleep function control input: H - DAC in power-down mode, L - DAC in operating mode. Internal pulldown.", 38 AGND (power) "Analog ground", 42 GSET (in) "Gain-setting mode: H - 1 resistor, L - 2 resistors. Internal pullup.", 43 EXTIO (io) "Internal reference output (bypass with 0.1 uF to AGND) or external reference input", 47 AVDD (power) "Analog supply voltage", 48 MODE (in) "Mode Select: H - Dual Bus, L - Interleaved. Internal pullup."

## DAC5662IPFBG4
designator U?
12-Bit 275 MSPS Dual DAC, -40 to 85 degC, 48-pin QFP (PFB48), Green (RoHS & no Sb/Br); Manufacturer: Texas Instruments; PartNumber: DAC5662IPFBG4; DAC Channels: 2; Interface: Parallel CMOS; Power Consumption(Typ)(mW): 330; Resolution(Bits): 12; Settling Time(us): 0.02; SFDR(dB): 85; SNR(dB): 73; SubFamily: High Speed DAC (>10MSPS); DatasheetVersion: SLAS425B; PackageVersion: 4073176/B, 10/1996; PackageReference: PFB48; PackageDescription: 48-Pin Plastic Flat Pack, Body 7 x 7 mm, Pitch 0.5 mm; Supplier 1: Digi-Key; Supplier Part Number 1: DAC5662IPFBG4-ND; Supplier 2: Mouser; Supplier Part Number 2: 595-DAC5662IPFBG4; DNL(Max)(+/-LSB): 2; Eco-Plan: Green (RoHS & no Sb/Br); INL(Max)(+/-LSB): 2; Mounting Technology: Surface Mount; Code_JEDEC: MS-026; ComponentLink1Description: Manufacturer URL; ComponentLink1URL: http://www.ti.com/; ComponentLink2Description: Datasheet; ComponentLink2URL: http://www.ti.com/general/docs/lit/getliterature.tsp?genericPartNumber=DAC5662&fileType=pdf; ComponentLink3Description: Package Specification; ComponentLink3URL: http://www.ti.com/lit/ml/mtqf019a/mtqf019a.pdf
footprint TI-PFB48_N (QFP, 48-Leads, Body 7x7mm, Pitch 0.5mm, IPC Medium Density)
footprint TI-PFB48_L (QFP, 48-Leads, Body 7x7mm, Pitch 0.5mm, IPC High Density)
footprint TI-PFB48_M (QFP, 48-Leads, Body 7x7mm, Pitch 0.5mm, IPC Low Density)
part A pins: 1 DA11 (MSB) (in) "Data port A. DA11 is MSB and DA0 is LSB. Internal pulldown.", 2 DA10 (in) "Data port A. DA11 is MSB and DA0 is LSB. Internal pulldown.", 3 DA9 (in) "Data port A. DA11 is MSB and DA0 is LSB. Internal pulldown.", 4 DA8 (in) "Data port A. DA11 is MSB and DA0 is LSB. Internal pulldown.", 5 DA7 (in) "Data port A. DA11 is MSB and DA0 is LSB. Internal pulldown.", 6 DA6 (in) "Data port A. DA11 is MSB and DA0 is LSB. Internal pulldown.", 7 DA5 (in) "Data port A. DA11 is MSB and DA0 is LSB. Internal pulldown.", 8 DA4 (in) "Data port A. DA11 is MSB and DA0 is LSB. Internal pulldown.", 9 DA3 (in) "Data port A. DA11 is MSB and DA0 is LSB. Internal pulldown.", 10 DA2 (in) "Data port A. DA11 is MSB and DA0 is LSB. Internal pulldown.", 11 DA1 (in) "Data port A. DA11 is MSB and DA0 is LSB. Internal pulldown.", 12 DA0 (LSB) (in) "Data port A. DA11 is MSB and DA0 is LSB. Internal pulldown.", 17 WRTA/WRTIQ (in) "Input write signal for PORT A (WRTIQ in interleaving mode)", 18 CLKA/CLKIQ (in) "Clock input for DACA, CLKIQ in interleaved mode", 44 BIASJ_A "Full-scale output current bias for DACA", 45 IOUTA2 (hiz) "DACA complementary current output. Full-scale with all bits of DA low.", 46 IOUTA1 (hiz) "DACA current output. Full-scale with all bits of DA high."
part B pins: 19 CLKB/RESETIQ (in) "Clock input for DACB, RESETIQ in interleaved mode", 20 WRTB/SELECTIQ (in) "Input write signal for PORT B (SELECTIQ in interleaving mode)", 23 DB11 (MSB) (in) "Data port B. DB11 is MSB and DB0 is LSB. Internal pulldown.", 24 DB10 (in) "Data port B. DB11 is MSB and DB0 is LSB. Internal pulldown.", 25 DB9 (in) "Data port B. DB11 is MSB and DB0 is LSB. Internal pulldown.", 26 DB8 (in) "Data port B. DB11 is MSB and DB0 is LSB. Internal pulldown.", 27 DB7 (in) "Data port B. DB11 is MSB and DB0 is LSB. Internal pulldown.", 28 DB6 (in) "Data port B. DB11 is MSB and DB0 is LSB. Internal pulldown.", 29 DB5 (in) "Data port B. DB11 is MSB and DB0 is LSB. Internal pulldown.", 30 DB4 (in) "Data port B. DB11 is MSB and DB0 is LSB. Internal pulldown.", 31 DB3 (in) "Data port B. DB11 is MSB and DB0 is LSB. Internal pulldown.", 32 DB2 (in) "Data port B. DB11 is MSB and DB0 is LSB. Internal pulldown.", 33 DB1 (in) "Data port B. DB11 is MSB and DB0 is LSB. Internal pulldown.", 34 DB0 (LSB) (in) "Data port B. DB11 is MSB and DB0 is LSB. Internal pulldown.", 39 IOUTB1 (hiz) "DACB current output. Full-scale with all bits of DB high.", 40 IOUTB2 (hiz) "DACB complementary current output. Full-scale with all bits of DB low.", 41 BIASJ_B "Full-scale output current bias for DACB"
part C pins: 13 NC "Factory use only. Pins must be connected to DGND or left unconnected.", 14 NC "Factory use only. Pins must be connected to DGND or left unconnected.", 15 DGND (power) "Digital ground", 16 DVDD (power) "Digital supply voltage", 21 DGND (power) "Digital ground", 22 DVDD (power) "Digital supply voltage", 35 NC "Factory use only. Pins must be connected to DGND or left unconnected.", 36 NC "Factory use only. Pins must be connected to DGND or left unconnected.", 37 SLEEP (in) "Sleep function control input: H - DAC in power-down mode, L - DAC in operating mode. Internal pulldown.", 38 AGND (power) "Analog ground", 42 GSET (in) "Gain-setting mode: H - 1 resistor, L - 2 resistors. Internal pullup.", 43 EXTIO (io) "Internal reference output (bypass with 0.1 uF to AGND) or external reference input", 47 AVDD (power) "Analog supply voltage", 48 MODE (in) "Mode Select: H - Dual Bus, L - Interleaved. Internal pullup."

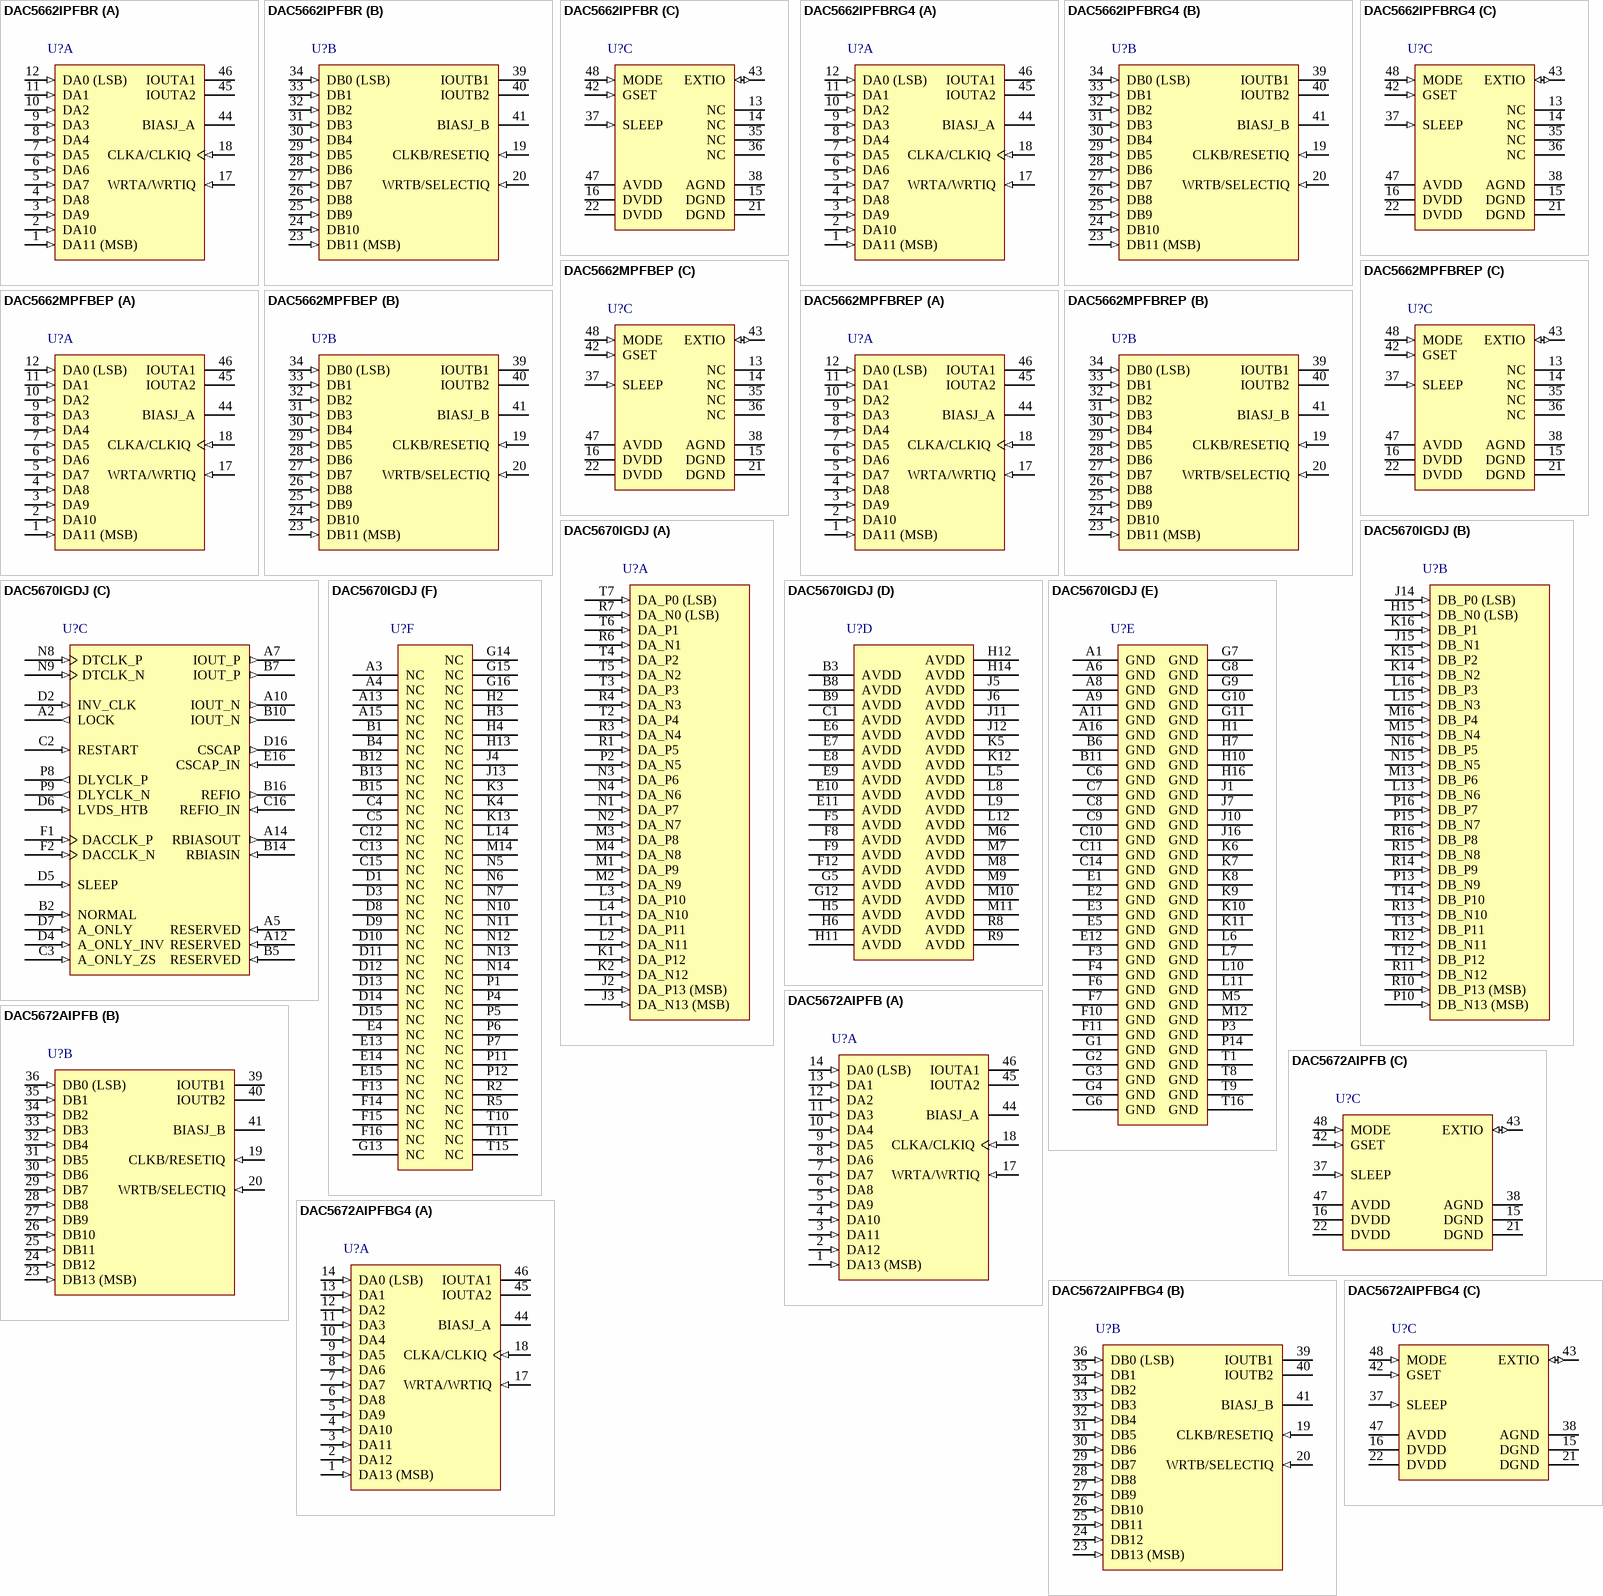
[diagram p16: symbols DAC5662IPFBR to DAC5672AIPFBG4]

## DAC5662IPFBR
designator U?
12-Bit 275 MSPS Dual DAC, -40 to 85 degC, 48-pin QFP (PFB48), Green (RoHS & no Sb/Br); Manufacturer: Texas Instruments; PartNumber: DAC5662IPFBR; DAC Channels: 2; Interface: Parallel CMOS; Power Consumption(Typ)(mW): 330; Resolution(Bits): 12; Settling Time(us): 0.02; SFDR(dB): 85; SNR(dB): 73; SubFamily: High Speed DAC (>10MSPS); DatasheetVersion: SLAS425B; PackageVersion: 4073176/B, 10/1996; PackageReference: PFB48; PackageDescription: 48-Pin Plastic Flat Pack, Body 7 x 7 mm, Pitch 0.5 mm; Supplier 1: Digi-Key; Supplier Part Number 1: DAC5662IPFBR-ND; Supplier 2: Mouser; Supplier Part Number 2: 595-DAC5662IPFBR; DNL(Max)(+/-LSB): 2; Eco-Plan: Green (RoHS & no Sb/Br); INL(Max)(+/-LSB): 2; Mounting Technology: Surface Mount; Code_JEDEC: MS-026; ComponentLink1Description: Manufacturer URL; ComponentLink1URL: http://www.ti.com/; ComponentLink2Description: Datasheet; ComponentLink2URL: http://www.ti.com/general/docs/lit/getliterature.tsp?genericPartNumber=DAC5662&fileType=pdf; ComponentLink3Description: Package Specification; ComponentLink3URL: http://www.ti.com/lit/ml/mtqf019a/mtqf019a.pdf
footprint TI-PFB48_N (QFP, 48-Leads, Body 7x7mm, Pitch 0.5mm, IPC Medium Density)
footprint TI-PFB48_L (QFP, 48-Leads, Body 7x7mm, Pitch 0.5mm, IPC High Density)
footprint TI-PFB48_M (QFP, 48-Leads, Body 7x7mm, Pitch 0.5mm, IPC Low Density)
part A pins: 1 DA11 (MSB) (in) "Data port A. DA11 is MSB and DA0 is LSB. Internal pulldown.", 2 DA10 (in) "Data port A. DA11 is MSB and DA0 is LSB. Internal pulldown.", 3 DA9 (in) "Data port A. DA11 is MSB and DA0 is LSB. Internal pulldown.", 4 DA8 (in) "Data port A. DA11 is MSB and DA0 is LSB. Internal pulldown.", 5 DA7 (in) "Data port A. DA11 is MSB and DA0 is LSB. Internal pulldown.", 6 DA6 (in) "Data port A. DA11 is MSB and DA0 is LSB. Internal pulldown.", 7 DA5 (in) "Data port A. DA11 is MSB and DA0 is LSB. Internal pulldown.", 8 DA4 (in) "Data port A. DA11 is MSB and DA0 is LSB. Internal pulldown.", 9 DA3 (in) "Data port A. DA11 is MSB and DA0 is LSB. Internal pulldown.", 10 DA2 (in) "Data port A. DA11 is MSB and DA0 is LSB. Internal pulldown.", 11 DA1 (in) "Data port A. DA11 is MSB and DA0 is LSB. Internal pulldown.", 12 DA0 (LSB) (in) "Data port A. DA11 is MSB and DA0 is LSB. Internal pulldown.", 17 WRTA/WRTIQ (in) "Input write signal for PORT A (WRTIQ in interleaving mode)", 18 CLKA/CLKIQ (in) "Clock input for DACA, CLKIQ in interleaved mode", 44 BIASJ_A "Full-scale output current bias for DACA", 45 IOUTA2 (hiz) "DACA complementary current output. Full-scale with all bits of DA low.", 46 IOUTA1 (hiz) "DACA current output. Full-scale with all bits of DA high."
part B pins: 19 CLKB/RESETIQ (in) "Clock input for DACB, RESETIQ in interleaved mode", 20 WRTB/SELECTIQ (in) "Input write signal for PORT B (SELECTIQ in interleaving mode)", 23 DB11 (MSB) (in) "Data port B. DB11 is MSB and DB0 is LSB. Internal pulldown.", 24 DB10 (in) "Data port B. DB11 is MSB and DB0 is LSB. Internal pulldown.", 25 DB9 (in) "Data port B. DB11 is MSB and DB0 is LSB. Internal pulldown.", 26 DB8 (in) "Data port B. DB11 is MSB and DB0 is LSB. Internal pulldown.", 27 DB7 (in) "Data port B. DB11 is MSB and DB0 is LSB. Internal pulldown.", 28 DB6 (in) "Data port B. DB11 is MSB and DB0 is LSB. Internal pulldown.", 29 DB5 (in) "Data port B. DB11 is MSB and DB0 is LSB. Internal pulldown.", 30 DB4 (in) "Data port B. DB11 is MSB and DB0 is LSB. Internal pulldown.", 31 DB3 (in) "Data port B. DB11 is MSB and DB0 is LSB. Internal pulldown.", 32 DB2 (in) "Data port B. DB11 is MSB and DB0 is LSB. Internal pulldown.", 33 DB1 (in) "Data port B. DB11 is MSB and DB0 is LSB. Internal pulldown.", 34 DB0 (LSB) (in) "Data port B. DB11 is MSB and DB0 is LSB. Internal pulldown.", 39 IOUTB1 (hiz) "DACB current output. Full-scale with all bits of DB high.", 40 IOUTB2 (hiz) "DACB complementary current output. Full-scale with all bits of DB low.", 41 BIASJ_B "Full-scale output current bias for DACB"
part C pins: 13 NC "Factory use only. Pins must be connected to DGND or left unconnected.", 14 NC "Factory use only. Pins must be connected to DGND or left unconnected.", 15 DGND (power) "Digital ground", 16 DVDD (power) "Digital supply voltage", 21 DGND (power) "Digital ground", 22 DVDD (power) "Digital supply voltage", 35 NC "Factory use only. Pins must be connected to DGND or left unconnected.", 36 NC "Factory use only. Pins must be connected to DGND or left unconnected.", 37 SLEEP (in) "Sleep function control input: H - DAC in power-down mode, L - DAC in operating mode. Internal pulldown.", 38 AGND (power) "Analog ground", 42 GSET (in) "Gain-setting mode: H - 1 resistor, L - 2 resistors. Internal pullup.", 43 EXTIO (io) "Internal reference output (bypass with 0.1 uF to AGND) or external reference input", 47 AVDD (power) "Analog supply voltage", 48 MODE (in) "Mode Select: H - Dual Bus, L - Interleaved. Internal pullup."

## DAC5662IPFBRG4
designator U?
12-Bit 275 MSPS Dual DAC, -40 to 85 degC, 48-pin QFP (PFB48), Green (RoHS & no Sb/Br); Manufacturer: Texas Instruments; PartNumber: DAC5662IPFBRG4; DAC Channels: 2; Interface: Parallel CMOS; Power Consumption(Typ)(mW): 330; Resolution(Bits): 12; Settling Time(us): 0.02; SFDR(dB): 85; SNR(dB): 73; SubFamily: High Speed DAC (>10MSPS); DatasheetVersion: SLAS425B; PackageVersion: 4073176/B, 10/1996; PackageReference: PFB48; PackageDescription: 48-Pin Plastic Flat Pack, Body 7 x 7 mm, Pitch 0.5 mm; Supplier 1: Digi-Key; Supplier Part Number 1: DAC5662IPFBRG4-ND; Supplier 2: Mouser; Supplier Part Number 2: 595-DAC5662IPFBRG4; DNL(Max)(+/-LSB): 2; Eco-Plan: Green (RoHS & no Sb/Br); INL(Max)(+/-LSB): 2; Mounting Technology: Surface Mount; Code_JEDEC: MS-026; ComponentLink1Description: Manufacturer URL; ComponentLink1URL: http://www.ti.com/; ComponentLink2Description: Datasheet; ComponentLink2URL: http://www.ti.com/general/docs/lit/getliterature.tsp?genericPartNumber=DAC5662&fileType=pdf; ComponentLink3Description: Package Specification; ComponentLink3URL: http://www.ti.com/lit/ml/mtqf019a/mtqf019a.pdf
footprint TI-PFB48_N (QFP, 48-Leads, Body 7x7mm, Pitch 0.5mm, IPC Medium Density)
footprint TI-PFB48_L (QFP, 48-Leads, Body 7x7mm, Pitch 0.5mm, IPC High Density)
footprint TI-PFB48_M (QFP, 48-Leads, Body 7x7mm, Pitch 0.5mm, IPC Low Density)
part A pins: 1 DA11 (MSB) (in) "Data port A. DA11 is MSB and DA0 is LSB. Internal pulldown.", 2 DA10 (in) "Data port A. DA11 is MSB and DA0 is LSB. Internal pulldown.", 3 DA9 (in) "Data port A. DA11 is MSB and DA0 is LSB. Internal pulldown.", 4 DA8 (in) "Data port A. DA11 is MSB and DA0 is LSB. Internal pulldown.", 5 DA7 (in) "Data port A. DA11 is MSB and DA0 is LSB. Internal pulldown.", 6 DA6 (in) "Data port A. DA11 is MSB and DA0 is LSB. Internal pulldown.", 7 DA5 (in) "Data port A. DA11 is MSB and DA0 is LSB. Internal pulldown.", 8 DA4 (in) "Data port A. DA11 is MSB and DA0 is LSB. Internal pulldown.", 9 DA3 (in) "Data port A. DA11 is MSB and DA0 is LSB. Internal pulldown.", 10 DA2 (in) "Data port A. DA11 is MSB and DA0 is LSB. Internal pulldown.", 11 DA1 (in) "Data port A. DA11 is MSB and DA0 is LSB. Internal pulldown.", 12 DA0 (LSB) (in) "Data port A. DA11 is MSB and DA0 is LSB. Internal pulldown.", 17 WRTA/WRTIQ (in) "Input write signal for PORT A (WRTIQ in interleaving mode)", 18 CLKA/CLKIQ (in) "Clock input for DACA, CLKIQ in interleaved mode", 44 BIASJ_A "Full-scale output current bias for DACA", 45 IOUTA2 (hiz) "DACA complementary current output. Full-scale with all bits of DA low.", 46 IOUTA1 (hiz) "DACA current output. Full-scale with all bits of DA high."
part B pins: 19 CLKB/RESETIQ (in) "Clock input for DACB, RESETIQ in interleaved mode", 20 WRTB/SELECTIQ (in) "Input write signal for PORT B (SELECTIQ in interleaving mode)", 23 DB11 (MSB) (in) "Data port B. DB11 is MSB and DB0 is LSB. Internal pulldown.", 24 DB10 (in) "Data port B. DB11 is MSB and DB0 is LSB. Internal pulldown.", 25 DB9 (in) "Data port B. DB11 is MSB and DB0 is LSB. Internal pulldown.", 26 DB8 (in) "Data port B. DB11 is MSB and DB0 is LSB. Internal pulldown.", 27 DB7 (in) "Data port B. DB11 is MSB and DB0 is LSB. Internal pulldown.", 28 DB6 (in) "Data port B. DB11 is MSB and DB0 is LSB. Internal pulldown.", 29 DB5 (in) "Data port B. DB11 is MSB and DB0 is LSB. Internal pulldown.", 30 DB4 (in) "Data port B. DB11 is MSB and DB0 is LSB. Internal pulldown.", 31 DB3 (in) "Data port B. DB11 is MSB and DB0 is LSB. Internal pulldown.", 32 DB2 (in) "Data port B. DB11 is MSB and DB0 is LSB. Internal pulldown.", 33 DB1 (in) "Data port B. DB11 is MSB and DB0 is LSB. Internal pulldown.", 34 DB0 (LSB) (in) "Data port B. DB11 is MSB and DB0 is LSB. Internal pulldown.", 39 IOUTB1 (hiz) "DACB current output. Full-scale with all bits of DB high.", 40 IOUTB2 (hiz) "DACB complementary current output. Full-scale with all bits of DB low.", 41 BIASJ_B "Full-scale output current bias for DACB"
part C pins: 13 NC "Factory use only. Pins must be connected to DGND or left unconnected.", 14 NC "Factory use only. Pins must be connected to DGND or left unconnected.", 15 DGND (power) "Digital ground", 16 DVDD (power) "Digital supply voltage", 21 DGND (power) "Digital ground", 22 DVDD (power) "Digital supply voltage", 35 NC "Factory use only. Pins must be connected to DGND or left unconnected.", 36 NC "Factory use only. Pins must be connected to DGND or left unconnected.", 37 SLEEP (in) "Sleep function control input: H - DAC in power-down mode, L - DAC in operating mode. Internal pulldown.", 38 AGND (power) "Analog ground", 42 GSET (in) "Gain-setting mode: H - 1 resistor, L - 2 resistors. Internal pullup.", 43 EXTIO (io) "Internal reference output (bypass with 0.1 uF to AGND) or external reference input", 47 AVDD (power) "Analog supply voltage", 48 MODE (in) "Mode Select: H - Dual Bus, L - Interleaved. Internal pullup."